# Altium schematic symbol library Cooling.SchLib: 1 symbol
Pins are listed as number, name and electrical type; pins without a type are passive.

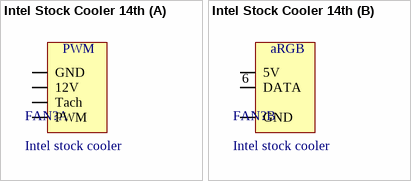
[diagram p0: symbol Intel Stock Cooler 14th]

## Intel Stock Cooler 14th
designator FAN?, comment Intel stock cooler
footprint Intel Stock Cooler
part A pins: 1 GND, 2 12V, 3 Tach, 4 PWM
part B pins: 5 5V, 6 DATA, 7 GND
part B text: aRGB